# EAGLE library part TS12A44514 (library texas-instruments)
IC SWITCH QUAD SPST
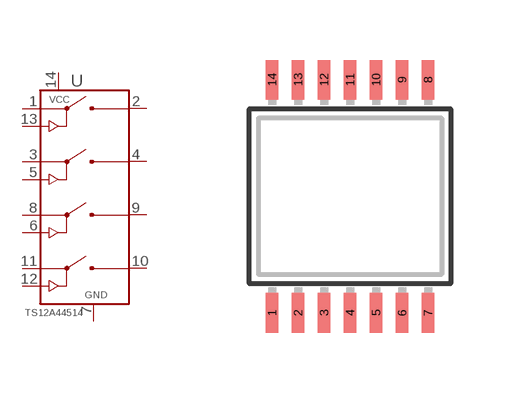
[diagram p37: symbol with the pads of TSSOP14; footprint TSSOP14]

Designator prefix U

## TS12A44514PWR (DIGIKEY: 296-23621-1-ND; MFR: Texas Instruments; MPN: TS12A44514PWR; P1I: o)  [TSSOP14]
1  NO1
2  COM1
3  NO2
4  COM2
5  IN2
6  IN3
7  GND
8  NO3
9  COM3
10  COM4
11  NO4
12  IN4
13  IN1
14  VCC

## Footprint TSSOP14 (pad centres in mm)
Thin Shrink Small Outline Plastic 14
smd 0.305 x 0.991: 1 -1.95,-2.918; 2 -1.3,-2.918; 3 -0.65,-2.918; 4 0,-2.918; 5 0.65,-2.918; 6 1.3,-2.918; 7 1.95,-2.918; 8 1.95,2.918; 9 1.3,2.918; 10 0.65,2.918; 11 0,2.918; 12 -0.65,2.918; 13 -1.3,2.918; 14 -1.95,2.918